# EAGLE library part TSM-106-01-L-SH (library ell-i)
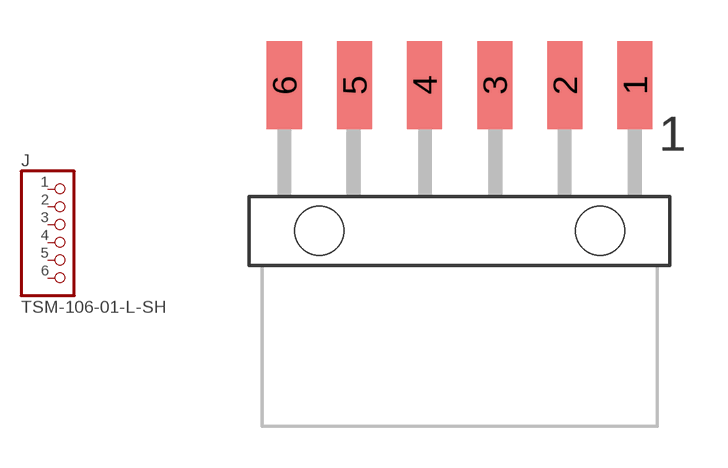
[diagram p11: symbol with the pads of TSM-106-01-L-SH; footprint TSM-106-01-L-SH]

Designator prefix J

## TSM-106-01-L-SH  [TSM-106-01-L-SH]
1  1  pas
2  2  pas
3  3  pas
4  4  pas
5  5  pas
6  6  pas

## Footprint TSM-106-01-L-SH (pad centres in mm)
smd 1.27 x 3.17: 1 6.35,5.28; 2 3.81,5.28; 3 1.27,5.28; 4 -1.27,5.28; 5 -3.81,5.28; 6 -6.35,5.28
hole 1.78 at 5.08,0
hole 1.78 at -5.08,0